# Altium footprint library 618 0xx 330 923.PcbLib: 4 footprints
Each footprint in its own frame and in the unit in brackets; x right, y up, seen from the top. Pads: shape width x height; smd on the part's side, far side on the other; paste and mask are expansions set on the pad; w line width, h text height; cw(c..) or ccw(c..) is an arc to the next point about the centre after c.
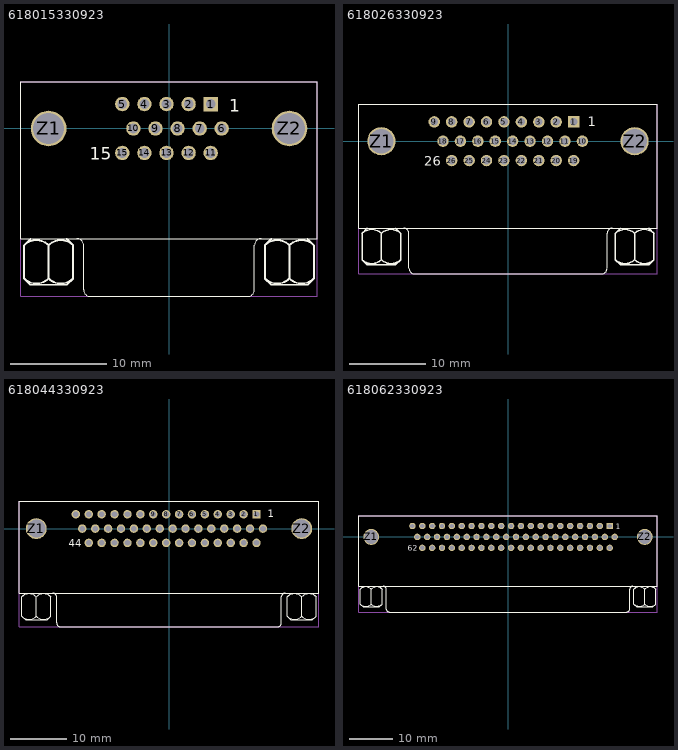
[diagram p0: the footprints below, top view; thin cyan lines are the x and y axes]

## 618015330923 [mm] "15 pins, right angled"
height 12.5
pads (17):
  rect 1.5x1.5 hole 1: 1(4.32,2.54)
  round 1.5 hole 1: 2(2.03,2.54) 3(-0.26,2.54) 4(-2.55,2.54) 5(-4.84,2.54) 6(5.465,0) 7(3.175,0) 8(0.885,0) 9(-1.405,0) 10(-3.695,0) 11(4.32,-2.54) 12(2.03,-2.54) 13(-0.26,-2.54) 14(-2.55,-2.54) 15(-4.84,-2.54)
  round 3.7 hole 3.2: Z1(-12.5,0) Z2(12.5,0)
Top Overlay:
  lines w0.127: -9.56,-11.435 cw(c-9.56,-12.13) -8.865,-12.13 -8.865,-16.73 ; -8.86,-16.735 ccw(c-8.165,-16.735) -8.165,-17.43 8.165,-17.43 ccw(c8.165,-16.735) 8.86,-16.735 ; 8.865,-16.73 8.865,-12.13 cw(c9.56,-12.13) 9.56,-11.435 ; -15.4,-11.43 -15.4,4.87 15.4,4.87 15.4,-11.43 -15.4,-11.43
  lines w0.2: -15.042,-15.58 -14.407,-16.215 -10.597,-16.215 -9.962,-15.58 -9.962,-12.125 -10.636,-11.451 ; -15.042,-15.565 -15.042,-12.125 -14.371,-11.454 ; -15.042,-14.513 -15.042,-14.301 ; -12.502,-15.565 -12.502,-12.125 ; 9.958,-15.58 10.593,-16.215 14.403,-16.215 15.038,-15.58 15.038,-12.125 14.364,-11.451 ; 9.958,-15.565 9.958,-12.125 10.629,-11.454 ; 9.958,-14.513 9.958,-14.301 ; 12.498,-15.565 12.498,-12.125
  lines w0.203: -15.044,-12.122 cw(c-13.772,-13.395) -12.5,-12.122 ; -15.042,-15.565 ccw(c-13.77,-14.293) -12.498,-15.565 ; -12.507,-15.565 ccw(c-11.234,-14.293) -9.962,-15.565 ; -12.504,-12.122 cw(c-11.232,-13.395) -9.96,-12.122 ; 9.956,-12.122 cw(c11.228,-13.395) 12.5,-12.122 ; 9.958,-15.565 ccw(c11.23,-14.293) 12.502,-15.565 ; 12.493,-15.565 ccw(c13.766,-14.293) 15.038,-15.565 ; 12.496,-12.122 cw(c13.768,-13.395) 15.04,-12.122
  text "1" at 6.25,1.75 h1.27
  text "15" at -8.25,-3.25 h1.27
Mechanical 13:
  lines w0.127: -15.4,-17.43 15.4,-17.43 15.4,4.87 -15.4,4.87 -15.4,-17.43
3D body: height 12.51, standoff -3.79, extent -15.4,-17.43 15.4,4.87

## 618026330923 [mm] "26 pins, right angled"
height 12.5
pads (28):
  rect 1.5x1.5 hole 1: 1(8.625,2.54)
  round 1.5 hole 1: 2(6.335,2.54) 3(4.045,2.54) 4(1.755,2.54) 5(-0.535,2.54) 6(-2.825,2.54) 7(-5.115,2.54) 8(-7.405,2.54) 9(-9.695,2.54) 10(9.77,0) 11(7.48,0) 12(5.19,0) 13(2.9,0) 14(0.61,0) 15(-1.68,0) 16(-3.97,0) 17(-6.26,0) 18(-8.55,0) 19(8.625,-2.54) 20(6.335,-2.54) 21(4.045,-2.54) 22(1.755,-2.54) 23(-0.535,-2.54) 24(-2.825,-2.54) 25(-5.115,-2.54) 26(-7.405,-2.54)
  round 3.7 hole 3.2: Z1(-16.65,0) Z2(16.65,0)
Top Overlay:
  lines w0.127: -13.715,-11.435 cw(c-13.715,-12.13) -13.02,-12.13 -13.02,-16.73 ; -13.015,-16.735 ccw(c-12.32,-16.735) -12.32,-17.43 12.32,-17.43 ccw(c12.32,-16.735) 13.015,-16.735 ; 13.02,-16.73 13.02,-12.13 cw(c13.715,-12.13) 13.715,-11.435 ; -19.6,-11.43 -19.6,4.87 19.6,4.87 19.6,-11.43 -19.6,-11.43
  lines w0.2: -19.192,-15.58 -18.557,-16.215 -14.747,-16.215 -14.112,-15.58 -14.112,-12.125 -14.786,-11.451 ; -19.192,-15.565 -19.192,-12.125 -18.521,-11.454 ; -19.192,-14.513 -19.192,-14.301 ; -16.652,-15.565 -16.652,-12.125 ; 14.108,-15.58 14.743,-16.215 18.553,-16.215 19.188,-15.58 19.188,-12.125 18.514,-11.451 ; 14.108,-15.565 14.108,-12.125 14.779,-11.454 ; 14.108,-14.513 14.108,-14.301 ; 16.648,-15.565 16.648,-12.125
  lines w0.203: -19.194,-12.122 cw(c-17.922,-13.395) -16.65,-12.122 ; -19.192,-15.565 ccw(c-17.92,-14.293) -16.648,-15.565 ; -16.657,-15.565 ccw(c-15.384,-14.293) -14.112,-15.565 ; -16.654,-12.122 cw(c-15.382,-13.395) -14.11,-12.122 ; 14.106,-12.122 cw(c15.378,-13.395) 16.65,-12.122 ; 14.108,-15.565 ccw(c15.38,-14.293) 16.652,-15.565 ; 16.643,-15.565 ccw(c17.916,-14.293) 19.188,-15.565 ; 16.646,-12.122 cw(c17.918,-13.395) 19.19,-12.122
  text "1" at 10.5,2 h1.27
  text "26" at -11,-3.25 h1.27
Mechanical 13:
  lines w0.127: -19.6,-17.43 19.6,-17.43 19.6,4.87 -19.6,4.87 -19.6,-17.43
3D body: height 12.51, standoff -3.79, extent -19.6,-17.43 19.6,4.87

## 618044330923 [mm] "44 pins, right angled"
height 12.5
pads (46):
  rect 1.5x1.5 hole 1: 1(15.525,2.54)
  round 1.5 hole 1: 2(13.235,2.54) 3(10.945,2.54) 4(8.655,2.54) 5(6.365,2.54) 6(4.075,2.54) 7(1.785,2.54) 8(-0.505,2.54) 9(-2.795,2.54) 10(-5.085,2.54) 11(-7.375,2.54) 12(-9.665,2.54) 13(-11.955,2.54) 14(-14.245,2.54) 15(-16.535,2.54) 16(16.67,0) 17(14.38,0) 18(12.09,0) 19(9.8,0) 20(7.51,0) 21(5.22,0) 22(2.93,0) 23(0.64,0) 24(-1.65,0) 25(-3.94,0) 26(-6.23,0) 27(-8.52,0) 28(-10.81,0) 29(-13.1,0) 30(-15.39,0) 31(15.525,-2.54) 32(13.235,-2.54) 33(10.945,-2.54) 34(8.655,-2.54) 35(6.365,-2.54) 36(4.075,-2.54) 37(1.785,-2.54) 38(-0.505,-2.54) 39(-2.795,-2.54) 40(-5.085,-2.54) 41(-7.375,-2.54) 42(-9.665,-2.54) 43(-11.955,-2.54) 44(-14.245,-2.54)
  round 3.7 hole 3.2: Z1(-23.55,0) Z2(23.55,0)
Top Overlay:
  lines w0.127: -20.64,-11.435 cw(c-20.64,-12.13) -19.945,-12.13 -19.945,-16.73 ; -19.94,-16.735 ccw(c-19.245,-16.735) -19.245,-17.43 19.245,-17.43 ccw(c19.245,-16.735) 19.94,-16.735 ; 19.945,-16.73 19.945,-12.13 cw(c20.64,-12.13) 20.64,-11.435 ; -26.55,-11.43 26.55,-11.43 26.55,4.87 -26.55,4.87 -26.55,-11.43
  lines w0.2: -26.092,-15.58 -25.457,-16.215 -21.647,-16.215 -21.012,-15.58 -21.012,-12.125 -21.686,-11.451 ; -26.092,-15.565 -26.092,-12.125 -25.421,-11.454 ; -26.092,-14.513 -26.092,-14.301 ; -23.552,-15.565 -23.552,-12.125 ; 21.008,-15.58 21.643,-16.215 25.453,-16.215 26.088,-15.58 26.088,-12.125 25.414,-11.451 ; 21.008,-15.565 21.008,-12.125 21.679,-11.454 ; 21.008,-14.513 21.008,-14.301 ; 23.548,-15.565 23.548,-12.125
  lines w0.203: -26.094,-12.122 cw(c-24.822,-13.395) -23.55,-12.122 ; -26.092,-15.565 ccw(c-24.82,-14.293) -23.548,-15.565 ; -23.557,-15.565 ccw(c-22.284,-14.293) -21.012,-15.565 ; -23.554,-12.122 cw(c-22.282,-13.395) -21.01,-12.122 ; 21.006,-12.122 cw(c22.278,-13.395) 23.55,-12.122 ; 21.008,-15.565 ccw(c22.28,-14.293) 23.552,-15.565 ; 23.543,-15.565 ccw(c24.816,-14.293) 26.088,-15.565 ; 23.546,-12.122 cw(c24.818,-13.395) 26.09,-12.122
  text "44" at -17.75,-3.25 h1.27
  text "1" at 17.5,2 h1.27
Mechanical 13:
  lines w0.127: -26.55,-17.43 -26.55,4.87 26.55,4.87 26.55,-17.43 -26.55,-17.43
3D body: height 12.51, standoff -3.79, extent -26.55,-17.43 26.55,4.87

## 618062330923 [mm] "62 pins, right angled"
height 12.5
pads (64):
  rect 1.5x1.5 hole 1: 1(23.605,2.54)
  round 1.5 hole 1: 2(21.315,2.54) 3(19.025,2.54) 4(16.735,2.54) 5(14.445,2.54) 6(12.155,2.54) 7(9.865,2.54) 8(7.575,2.54) 9(5.285,2.54) 10(2.995,2.54) 11(0.705,2.54) 12(-1.585,2.54) 13(-3.875,2.54) 14(-6.165,2.54) 15(-8.455,2.54) 16(-10.745,2.54) 17(-13.035,2.54) 18(-15.325,2.54) 19(-17.615,2.54) 20(-19.905,2.54) 21(-22.195,2.54) 22(24.75,0) 23(22.46,0) 24(20.17,0) 25(17.88,0) 26(15.59,0) 27(13.3,0) 28(11.01,0) 29(8.72,0) 30(6.43,0) 31(4.14,0) 32(1.85,0) 33(-0.44,0) 34(-2.73,0) 35(-5.02,0) 36(-7.31,0) 37(-9.6,0) 38(-11.89,0) 39(-14.18,0) 40(-16.47,0) 41(-18.76,0) 42(-21.05,0) 43(23.605,-2.54) 44(21.315,-2.54) 45(19.025,-2.54) 46(16.735,-2.54) 47(14.445,-2.54) 48(12.155,-2.54) 49(9.865,-2.54) 50(7.575,-2.54) 51(5.285,-2.54) 52(2.995,-2.54) 53(0.705,-2.54) 54(-1.585,-2.54) 55(-3.875,-2.54) 56(-6.165,-2.54) 57(-8.455,-2.54) 58(-10.745,-2.54) 59(-13.035,-2.54) 60(-15.325,-2.54) 61(-17.615,-2.54) 62(-19.905,-2.54)
  round 3.7 hole 3.2: Z1(-31.75,0) Z2(31.75,0)
Top Overlay:
  lines w0.127: -28.95,-11.435 cw(c-28.95,-12.13) -28.255,-12.13 -28.255,-16.73 ; -28.25,-16.735 ccw(c-27.555,-16.735) -27.555,-17.43 27.555,-17.43 ccw(c27.555,-16.735) 28.25,-16.735 ; 28.255,-16.73 28.255,-12.13 cw(c28.95,-12.13) 28.95,-11.435 ; -34.7,-11.43 34.7,-11.43 34.7,4.87 -34.7,4.87 -34.7,-11.43
  lines w0.2: -34.292,-15.58 -33.657,-16.215 -29.847,-16.215 -29.212,-15.58 -29.212,-12.125 -29.886,-11.451 ; -34.292,-15.565 -34.292,-12.125 -33.621,-11.454 ; -34.292,-14.513 -34.292,-14.301 ; -31.752,-15.565 -31.752,-12.125 ; 29.208,-15.58 29.843,-16.215 33.653,-16.215 34.288,-15.58 34.288,-12.125 33.614,-11.451 ; 29.208,-15.565 29.208,-12.125 29.879,-11.454 ; 29.208,-14.513 29.208,-14.301 ; 31.748,-15.565 31.748,-12.125
  lines w0.203: -34.294,-12.122 cw(c-33.022,-13.395) -31.75,-12.122 ; -34.292,-15.565 ccw(c-33.02,-14.293) -31.748,-15.565 ; -31.757,-15.565 ccw(c-30.484,-14.293) -29.212,-15.565 ; -31.754,-12.122 cw(c-30.482,-13.395) -29.21,-12.122 ; 29.206,-12.122 cw(c30.478,-13.395) 31.75,-12.122 ; 29.208,-15.565 ccw(c30.48,-14.293) 31.752,-15.565 ; 31.743,-15.565 ccw(c33.016,-14.293) 34.288,-15.565 ; 31.746,-12.122 cw(c33.018,-13.395) 34.29,-12.122
  text "62" at -23.25,-3.25 h1.27
  text "1" at 25,1.75 h1.27
Mechanical 13:
  lines w0.127: 34.7,-11.43 34.7,4.87 ; 34.7,4.87 -34.7,4.87 -34.7,-17.43 34.7,-17.43 34.7,4.87
3D body: height 12.51, standoff -3.79, extent -34.7,-17.43 34.7,4.87